# Altium integrated library ALTIUM-TBL_3_50_2141S_HORIZONTAL_ENTRY_MODULAR_W_RISING_CAGE_69121411000xS-rev17a.IntLib: 28 symbols
Pins are listed as number, name and electrical type; pins without a type are passive.

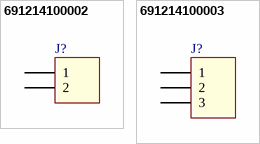
[diagram p0: symbols 691214100002 to 691214100003]

## 691214100002
designator J?
WR-TBL Serie 2141 - 3.50 mm Vertical Entry Modular with Rising Cage Clamp, 2p; Part Number: 691214100002; Pitch: 3.5 mm; Pin Number: 2; ComponentLink1Description: Manufacturer; ComponentLink1URL: http://www.we-online.de; ComponentLink2Description: Datasheet; ComponentLink2URL: http://katalog.we-online.de/em/datasheet/6912141000xx.pdf; Published Date: March 2017; Publisher: Wurth Elektronik
footprint 691214100002 (3.50 mm Vertical Entry Modular with Rising Cage Clamp, 2p)
pins: 1, 2

## 691214100003
designator J?
WR-TBL Serie 2141 - 3.50 mm Vertical Entry Modular with Rising Cage Clamp, 3p; Part Number: 691214100003; Pitch: 3.5 mm; Pin Number: 3; ComponentLink1Description: Manufacturer; ComponentLink1URL: http://www.we-online.de; ComponentLink2Description: Datasheet; ComponentLink2URL: http://katalog.we-online.de/em/datasheet/6912141000xx.pdf; Published Date: March 2017; Publisher: Wurth Elektronik
footprint 691214100003 (3.50 mm Vertical Entry Modular with Rising Cage Clamp, 3p)
pins: 1, 2, 3


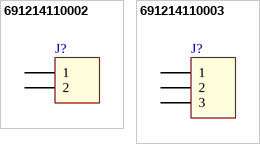
[diagram p1: symbols 691214110002 to 691214110003]

## 691214110002
designator J?
WR-TBL Serie 2141 - 3.50 mm Horizontal Entry Modular, 2p; Part Number: 691214110002; Pitch: 3.5 mm; Pin Number: 2; ComponentLink1Description: Manufacturer; ComponentLink1URL: http://www.we-online.de; ComponentLink2Description: Datasheet; ComponentLink2URL: http://katalog.we-online.de/em/datasheet/6912141100xx.pdf; Published Date: March 2017; Publisher: Wurth Elektronik
footprint 691214110002 (3.50 mm Horizontal Entry Modular, 2p)
pins: 1, 2

## 691214110003
designator J?
WR-TBL Serie 2141 - 3.50 mm Horizontal Entry Modular, 3p; Part Number: 691214110003; Pitch: 3.5 mm; Pin Number: 3; ComponentLink1Description: Manufacturer; ComponentLink1URL: http://www.we-online.de; ComponentLink2Description: Datasheet; ComponentLink2URL: http://katalog.we-online.de/em/datasheet/6912141100xx.pdf; Published Date: March 2017; Publisher: Wurth Elektronik
footprint 691214110003 (3.50 mm Horizontal Entry Modular, 3p)
pins: 1, 2, 3


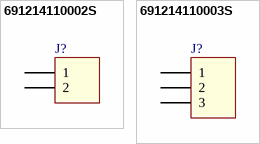
[diagram p2: symbols 691214110002S to 691214110003S]

## 691214110002S
designator J?
WR-TBL Serie 2141 S - 3.50 mm Horizontal Entry Modular with Rising Cage Clamp, 2p; Part Number: 691214110002S; Pitch: 3.5 mm; Pin Number: 2; ComponentLink1Description: Manufacturer; ComponentLink1URL: http://www.we-online.de; ComponentLink2Description: Datasheet; ComponentLink2URL: http://katalog.we-online.de/em/datasheet/6912141100XXS.pdf; Published Date: March 2017; Publisher: Wurth Elektronik
footprint 691214110002S (Serie 2141S - 3.50 mm _ 2 pins)
pins: 1, 2

## 691214110003S
designator J?
WR-TBL Serie 2141 S - 3.50 mm Horizontal Entry Modular with Rising Cage Clamp, 3p; Part Number: 691214110003S; Pitch: 3.5 mm; Pin Number: 3; ComponentLink1Description: Manufacturer; ComponentLink1URL: http://www.we-online.de; ComponentLink2Description: Datasheet; ComponentLink2URL: http://katalog.we-online.de/em/datasheet/6912141100XXS.pdf; Published Date: March 2017; Publisher: Wurth Elektronik
footprint 691214110003S (Serie 2141S - 3.50 mm _ 3 pins)
pins: 1, 2, 3


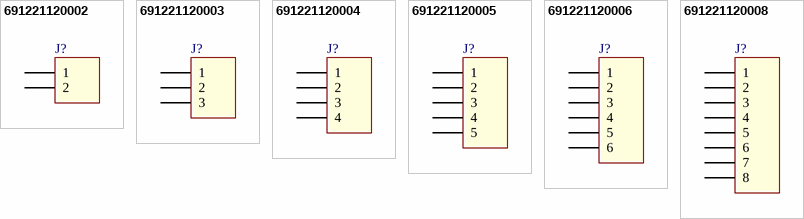
[diagram p3: symbols 691221120002 to 691221120008]

## 691221120002
designator J?
WR-TBL Serie 2211 - 3.50 mm 55° Entry, 2p; Part Number: 691221120002; Pitch: 3.5 mm; Pin Number: 2; ComponentLink1Description: Manufacturer; ComponentLink1URL: http://www.we-online.de; ComponentLink2Description: Datasheet; ComponentLink2URL: http://katalog.we-online.de/em/datasheet/6912211200xx.pdf; Published Date: March 2017; Publisher: Wurth Elektronik
footprint 691221120002 (3.50 mm 55° Entry, 2p)
pins: 1, 2

## 691221120003
designator J?
WR-TBL Serie 2211 - 3.50 mm 55° Entry, 3p; Part Number: 691221120003; Pitch: 3.5 mm; Pin Number: 3; ComponentLink1Description: Manufacturer; ComponentLink1URL: http://www.we-online.de; ComponentLink2Description: Datasheet; ComponentLink2URL: http://katalog.we-online.de/em/datasheet/6912211200xx.pdf; Published Date: March 2017; Publisher: Wurth Elektronik
footprint 691221120003 (3.50 mm 55° Entry, 3p)
pins: 1, 2, 3

## 691221120004
designator J?
WR-TBL Serie 2211 - 3.50 mm 55° Entry, 4p; Part Number: 691221120004; Pitch: 3.5 mm; Pin Number: 4; ComponentLink1Description: Manufacturer; ComponentLink1URL: http://www.we-online.de; ComponentLink2Description: Datasheet; ComponentLink2URL: http://katalog.we-online.de/em/datasheet/6912211200xx.pdf; Published Date: March 2017; Publisher: Wurth Elektronik
footprint 691221120004 (3.50 mm 55° Entry, 4p)
pins: 1, 2, 3, 4

## 691221120005
designator J?
WR-TBL Serie 2211 - 3.50 mm 55° Entry, 5p; Part Number: 691221120005; Pitch: 3.5 mm; Pin Number: 5; ComponentLink1Description: Manufacturer; ComponentLink1URL: http://www.we-online.de; ComponentLink2Description: Datasheet; ComponentLink2URL: http://katalog.we-online.de/em/datasheet/6912211200xx.pdf; Published Date: March 2017; Publisher: Wurth Elektronik
footprint 691221120005 (3.50 mm 55° Entry, 5p)
pins: 1, 2, 3, 4, 5

## 691221120006
designator J?
WR-TBL Serie 2211 - 3.50 mm 55° Entry, 6p; Part Number: 691221120006; Pitch: 3.5 mm; Pin Number: 6; ComponentLink1Description: Manufacturer; ComponentLink1URL: http://www.we-online.de; ComponentLink2Description: Datasheet; ComponentLink2URL: http://katalog.we-online.de/em/datasheet/6912211200xx.pdf; Published Date: March 2017; Publisher: Wurth Elektronik
footprint 691221120006 (3.50 mm 55° Entry, 6p)
pins: 1, 2, 3, 4, 5, 6

## 691221120008
designator J?
WR-TBL Serie 2211 - 3.50 mm 55° Entry, 8p; Part Number: 691221120008; Pitch: 3.5 mm; Pin Number: 8; ComponentLink1Description: Manufacturer; ComponentLink1URL: http://www.we-online.de; ComponentLink2Description: Datasheet; ComponentLink2URL: http://katalog.we-online.de/em/datasheet/6912211200xx.pdf; Published Date: March 2017; Publisher: Wurth Elektronik
footprint 691221120008 (3.50 mm 55° Entry, 8p)
pins: 1, 2, 3, 4, 5, 6, 7, 8


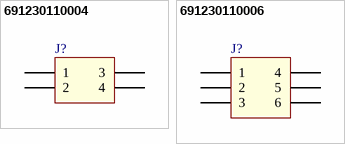
[diagram p4: symbols 691230110004 to 691230110006]

## 691230110004
designator J?
WR-TBL Serie 2301 - 3.50 mm Double Level Horizontal Entry Modular with Rising Cage, 4p; Part Number: 691230110004; Pitch: 3.5 mm; Pin Number: 4; ComponentLink1Description: Manufacturer; ComponentLink1URL: http://www.we-online.de; ComponentLink2Description: Datasheet; ComponentLink2URL: http://katalog.we-online.de/em/datasheet/6912301100xx.pdf; Published Date: March 2017; Publisher: Wurth Elektronik
footprint 691230110004 (3,50mm - modular - 2 rows - Right - horizontal entry with rising cage clamp - 04p)
pins: 1, 2, 3, 4

## 691230110006
designator J?
WR-TBL Serie 2301 - 3.50 mm Double Level Horizontal Entry Modular with Rising Cage, 6p; Part Number: 691230110006; Pitch: 3.5 mm; Pin Number: 6; ComponentLink1Description: Manufacturer; ComponentLink1URL: http://www.we-online.de; ComponentLink2Description: Datasheet; ComponentLink2URL: http://katalog.we-online.de/em/datasheet/6912301100xx.pdf; Published Date: March 2017; Publisher: Wurth Elektronik
footprint 691230110006 (3,50mm - modular - 2 rows - Right - horizontal entry with rising cage clamp - 06p)
pins: 1, 2, 3, 4, 5, 6


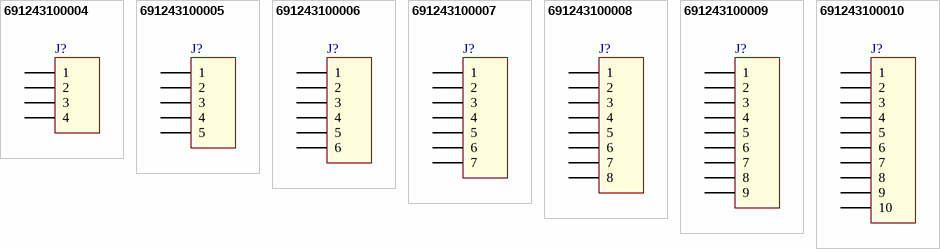
[diagram p5: symbols 691243100004 to 691243100010]

## 691243100004
designator J?
WR-TBL Serie 2431 - 3.50 mm Vertical Entry Modular with Rising Cage Clamp, 4p; Part Number: 691243100004; Pitch: 3.5 mm; Pin Number: 4; ComponentLink1Description: Manufacturer; ComponentLink1URL: http://www.we-online.de; ComponentLink2Description: Datasheet; ComponentLink2URL: http://katalog.we-online.de/em/datasheet/6912431000XX.pdf; Published Date: March 2017; Publisher: Wurth Elektronik
footprint 691243100004 (Serie 2431 - 3.50 mm _ 4 pins)
pins: 1, 2, 3, 4

## 691243100005
designator J?
WR-TBL Serie 2431 - 3.50 mm Vertical Entry Modular with Rising Cage Clamp, 5p; Part Number: 691243100005; Pitch: 3.5 mm; Pin Number: 5; ComponentLink1Description: Manufacturer; ComponentLink1URL: http://www.we-online.de; ComponentLink2Description: Datasheet; ComponentLink2URL: http://katalog.we-online.de/em/datasheet/6912431000XX.pdf; Published Date: March 2017; Publisher: Wurth Elektronik
footprint 691243100005 (Serie 2431 - 3.50 mm _ 5 pins)
pins: 1, 2, 3, 4, 5

## 691243100006
designator J?
WR-TBL Serie 2431 - 3.50 mm Vertical Entry Modular with Rising Cage Clamp, 6p; Part Number: 691243100006; Pitch: 3.5 mm; Pin Number: 6; ComponentLink1Description: Manufacturer; ComponentLink1URL: http://www.we-online.de; ComponentLink2Description: Datasheet; ComponentLink2URL: http://katalog.we-online.de/em/datasheet/6912431000XX.pdf; Published Date: March 2017; Publisher: Wurth Elektronik
footprint 691243100006 (Serie 2431 - 3.50 mm _ 6 pins)
pins: 1, 2, 3, 4, 5, 6

## 691243100007
designator J?
WR-TBL Serie 2431 - 3.50 mm Vertical Entry Modular with Rising Cage Clamp, 7p; Part Number: 691243100007; Pitch: 3.5 mm; Pin Number: 7; ComponentLink1Description: Manufacturer; ComponentLink1URL: http://www.we-online.de; ComponentLink2Description: Datasheet; ComponentLink2URL: http://katalog.we-online.de/em/datasheet/6912431000XX.pdf; Published Date: March 2017; Publisher: Wurth Elektronik
footprint 691243100007 (Serie 2431 - 3.50 mm _ 7 pins)
pins: 1, 2, 3, 4, 5, 6, 7

## 691243100008
designator J?
WR-TBL Serie 2431 - 3.50 mm Vertical Entry Modular with Rising Cage Clamp, 8p; Part Number: 691243100008; Pitch: 3.5 mm; Pin Number: 8; ComponentLink1Description: Manufacturer; ComponentLink1URL: http://www.we-online.de; ComponentLink2Description: Datasheet; ComponentLink2URL: http://katalog.we-online.de/em/datasheet/6912431000XX.pdf; Published Date: March 2017; Publisher: Wurth Elektronik
footprint 691243100008 (Serie 2431 - 3.50 mm _ 8 pins)
pins: 1, 2, 3, 4, 5, 6, 7, 8

## 691243100009
designator J?
WR-TBL Serie 2431 - 3.50 mm Vertical Entry Modular with Rising Cage Clamp, 9p; Part Number: 691243100009; Pitch: 3.5 mm; Pin Number: 9; ComponentLink1Description: Manufacturer; ComponentLink1URL: http://www.we-online.de; ComponentLink2Description: Datasheet; ComponentLink2URL: http://katalog.we-online.de/em/datasheet/6912431000XX.pdf; Published Date: March 2017; Publisher: Wurth Elektronik
footprint 691243100009 (Serie 2431 - 3.50 mm _ 9 pins)
pins: 1, 2, 3, 4, 5, 6, 7, 8, 9

## 691243100010
designator J?
WR-TBL Serie 2431 - 3.50 mm Vertical Entry Modular with Rising Cage Clamp, 10p; Part Number: 691243100010; Pitch: 3.5 mm; Pin Number: 10; ComponentLink1Description: Manufacturer; ComponentLink1URL: http://www.we-online.de; ComponentLink2Description: Datasheet; ComponentLink2URL: http://katalog.we-online.de/em/datasheet/6912431000XX.pdf; Published Date: March 2017; Publisher: Wurth Elektronik
footprint 691243100010 (Serie 2431 - 3.50 mm _ 10 pins)
pins: 1, 2, 3, 4, 5, 6, 7, 8, 9, 10


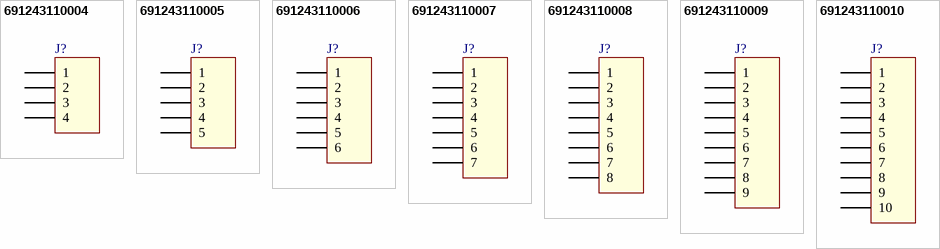
[diagram p6: symbols 691243110004 to 691243110010]

## 691243110004
designator J?
WR-TBL Serie 2431 - 3.50 mm Horizontal Cable Entry with Rising Clamp, 4p; Part Number: 691243110004; Pitch: 3.5 mm; Pin Number: 4; ComponentLink1Description: Manufacturer; ComponentLink1URL: http://www.we-online.de; ComponentLink2Description: Datasheet; ComponentLink2URL: http://katalog.we-online.de/em/datasheet/6912431100XX.pdf; Published Date: March 2017; Publisher: Wurth Elektronik
footprint 691243110004 (Serie 2431 - 3.50 mm_4 pins)
pins: 1, 2, 3, 4

## 691243110005
designator J?
WR-TBL Serie 2431 - 3.50 mm Horizontal Cable Entry with Rising Clamp, 5p; Part Number: 691243110005; Pitch: 3.5 mm; Pin Number: 5; ComponentLink1Description: Manufacturer; ComponentLink1URL: http://www.we-online.de; ComponentLink2Description: Datasheet; ComponentLink2URL: http://katalog.we-online.de/em/datasheet/6912431100XX.pdf; Published Date: March 2017; Publisher: Wurth Elektronik
footprint 691243110005 (Serie 2431 - 3.50 mm_5 pins)
pins: 1, 2, 3, 4, 5

## 691243110006
designator J?
WR-TBL Serie 2431 - 3.50 mm Horizontal Cable Entry with Rising Clamp, 6p; Part Number: 691243110006; Pitch: 3.5 mm; Pin Number: 6; ComponentLink1Description: Manufacturer; ComponentLink1URL: http://www.we-online.de; ComponentLink2Description: Datasheet; ComponentLink2URL: http://katalog.we-online.de/em/datasheet/6912431100XX.pdf; Published Date: March 2017; Publisher: Wurth Elektronik
footprint 691243110006 (Serie 2431 - 3.50 mm_6 pins)
pins: 1, 2, 3, 4, 5, 6

## 691243110007
designator J?
WR-TBL Serie 2431 - 3.50 mm Horizontal Cable Entry with Rising Clamp, 7p; Part Number: 691243110007; Pitch: 3.5 mm; Pin Number: 7; ComponentLink1Description: Manufacturer; ComponentLink1URL: http://www.we-online.de; ComponentLink2Description: Datasheet; ComponentLink2URL: http://katalog.we-online.de/em/datasheet/6912431100XX.pdf; Published Date: March 2017; Publisher: Wurth Elektronik
footprint 691243110007 (Serie 2431 - 3.50 mm_7 pins)
pins: 1, 2, 3, 4, 5, 6, 7

## 691243110008
designator J?
WR-TBL Serie 2431 - 3.50 mm Horizontal Cable Entry with Rising Clamp, 8p; Part Number: 691243110008; Pitch: 3.5 mm; Pin Number: 8; ComponentLink1Description: Manufacturer; ComponentLink1URL: http://www.we-online.de; ComponentLink2Description: Datasheet; ComponentLink2URL: http://katalog.we-online.de/em/datasheet/6912431100XX.pdf; Published Date: March 2017; Publisher: Wurth Elektronik
footprint 691243110008 (Serie 2431 - 3.50 mm_8 pins)
pins: 1, 2, 3, 4, 5, 6, 7, 8

## 691243110009
designator J?
WR-TBL Serie 2431 - 3.50 mm Horizontal Cable Entry with Rising Clamp, 9p; Part Number: 691243110009; Pitch: 3.5 mm; Pin Number: 9; ComponentLink1Description: Manufacturer; ComponentLink1URL: http://www.we-online.de; ComponentLink2Description: Datasheet; ComponentLink2URL: http://katalog.we-online.de/em/datasheet/6912431100XX.pdf; Published Date: March 2017; Publisher: Wurth Elektronik
footprint 691243110009 (Serie 2431 - 3.50 mm_9 pins)
pins: 1, 2, 3, 4, 5, 6, 7, 8, 9

## 691243110010
designator J?
WR-TBL Serie 2431 - 3.50 mm Horizontal Cable Entry with Rising Clamp, 10p; Part Number: 691243110010; Pitch: 3.5 mm; Pin Number: 10; ComponentLink1Description: Manufacturer; ComponentLink1URL: http://www.we-online.de; ComponentLink2Description: Datasheet; ComponentLink2URL: http://katalog.we-online.de/em/datasheet/6912431100XX.pdf; Published Date: March 2017; Publisher: Wurth Elektronik
footprint 691243110010 (Serie 2431 - 3.50 mm_10 pins)
pins: 1, 2, 3, 4, 5, 6, 7, 8, 9, 10